# Altium footprint library LCD.PcbLib: 36 footprints (part 1 of 3)
Each footprint in its own frame and in the unit in brackets; x right, y up, seen from the top. Pads: shape width x height; smd on the part's side, far side on the other; paste and mask are expansions set on the pad; w line width, h text height; cw(c..) or ccw(c..) is an arc to the next point about the centre after c.
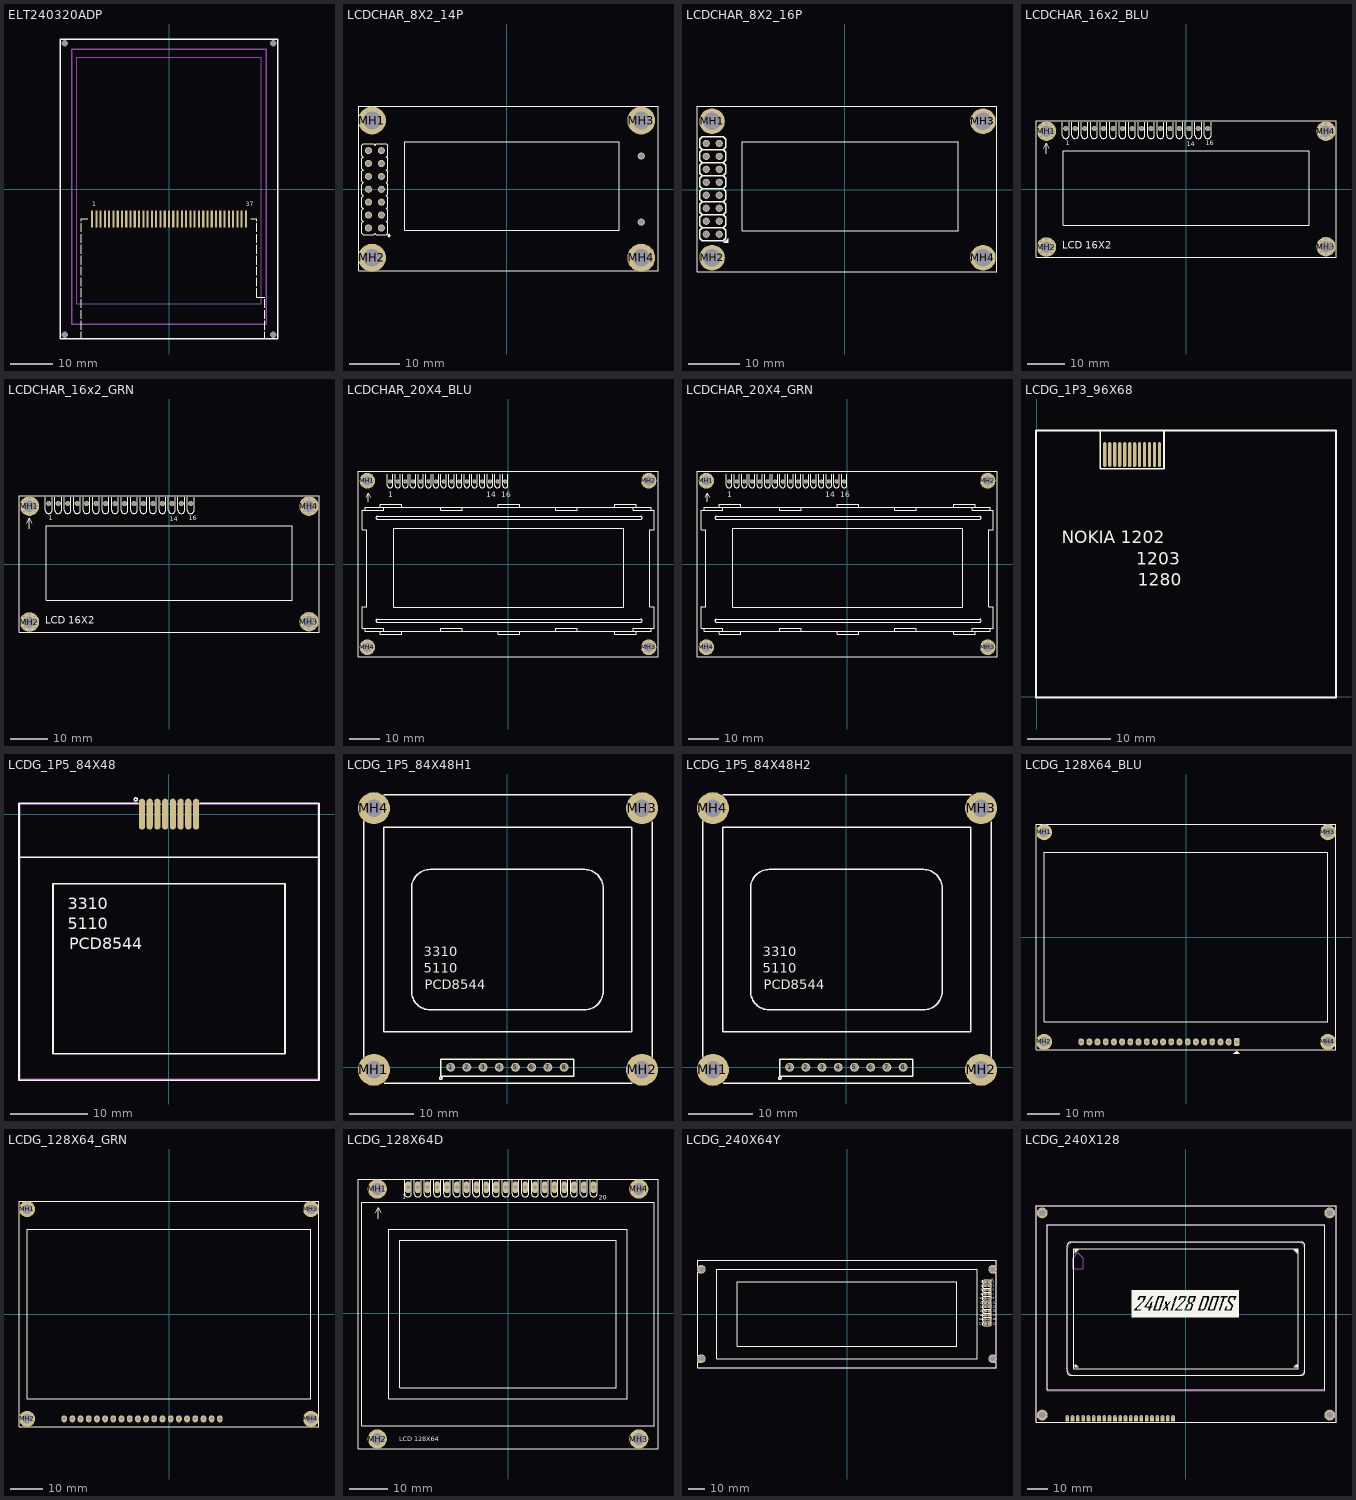
[diagram p0: the footprints below, top view; thin cyan lines are the x and y axes]

## ELT240320ADP [mm] "ELT240320ADP , 2.8 Inch TFT LED with Touch Screen , 37 Leads with 1mm Pitch"
pads (41):
  rect 0.5x4 smd: 1(-18,-7) 2(-17,-7) 3(-16,-7) 4(-15,-7) 5(-14,-7) 6(-13,-7) 7(-12,-7) 8(-11,-7) 9(-10,-7) 10(-9,-7) 11(-8,-7) 12(-7,-7) 13(-6,-7) 14(-5,-7) 15(-4,-7) 16(-3,-7) 17(-2,-7) 18(-1,-7) 19(0,-7) 20(1,-7) 21(2,-7) 22(3,-7) 23(4,-7) 24(5,-7) 25(6,-7) 26(7,-7) 27(8,-7) 28(9,-7) 29(10,-7) 30(11,-7) 31(12,-7) 32(13,-7) 33(14,-7) 34(15,-7) 35(16,-7) 36(17,-7) 37(18,-7)
  rect 0x0 hole 1.5: MH(-24.4,-34.125) MH(-24.4,34.125) MH(24.4,-34.125) MH(24.4,34.125)
Top Overlay:
  lines w0.254: -20.5,-34.792 -20.5,-33.416 ; -20.5,-32.908 -20.5,-30.876 ; -20.5,-30.368 -20.5,-28.336 ; -20.5,-27.828 -20.5,-25.796 ; -20.5,-25.288 -20.5,-23.256 ; -20.5,-22.748 -20.5,-20.716 ; -20.5,-20.208 -20.5,-18.176 ; -20.5,-17.668 -20.5,-15.636 ; -20.5,-15.128 -20.5,-13.096 ; -20.5,-12.588 -20.5,-10.556 ; -20.5,-10.048 -20.5,-8.016 ; -20.5,-7.508 -20.5,-6.992 -19.016,-6.992 ; 19.084,-6.992 20.5,-6.992 20.5,-7.508 ; 20.5,-25.292 22.4,-25.292 ; 20.5,-25.288 20.5,-23.256 ; 20.5,-22.748 20.5,-20.716 ; 20.5,-20.208 20.5,-18.176 ; 20.5,-17.668 20.5,-15.636 ; 20.5,-15.128 20.5,-13.096 ; 20.5,-12.588 20.5,-10.556 ; 20.5,-10.048 20.5,-8.016 ; 22.4,-35.1 22.4,-33.416 ; 22.4,-32.908 22.4,-30.876 ; 22.4,-30.368 22.4,-28.336 ; 22.4,-27.828 22.4,-25.796
  lines w0.3: -25.5,-35.1 -25.5,35.1 25.5,35.1 25.5,-35.1 -25.5,-35.1
  text "37" at 18,-4 h1
  text "1" at -18,-4 h1
Mechanical 1:
  lines w0.254: -21.6,-26.8 -21.6,30.8 21.6,30.8 21.6,-26.8 -21.6,-26.8
  lines w0.3: -22.75,-31.65 -22.75,32.65 22.75,32.65 22.75,-31.65 -22.75,-31.65
  text "Touch Area" at -5.55,-31.05 h1
  text "Active Area" at -21,29.2 h1
3D body: height 4.05, standoff 0.8, extent -25,-34.6 25,34.6

## LCDCHAR_8X2_14P [mm] "LCD Characters Display, 2linesX8char, header2x7 + 2"
pads (20):
  round 1.4 / inner round 1.4 / far side oval 2.2x1.4 hole 1 mask+0.1: 1(-24.65,-7.65) 2(-27.19,-7.65) 3(-24.65,-5.11) 4(-27.19,-5.11) 5(-24.65,-2.57) 6(-27.19,-2.57) 7(-24.65,-0.03) 8(-27.19,-0.03) 9(-24.65,2.51) 10(-27.19,2.51) 11(-24.65,5.05) 12(-27.19,5.05) 13(-24.65,7.59) 14(-27.19,7.59) 15(26.5,6.5) 16(26.5,-6.5)
  round 5.5 hole 3.5: MH1(-26.5,13.5) MH2(-26.5,-13.5) MH3(26.5,13.5) MH4(26.5,-13.5)
Top Overlay:
  circle w0.2: c-23.15,-9.13 r0.2
  lines w0.2: -28.19,-6.41 -28.49,-6.11 -28.49,-4.11 -28.19,-3.81 ; -28.19,-6.35 -28.49,-6.65 -28.49,-8.65 -28.19,-8.95 -26.19,-8.95 -25.89,-8.65 ; -28.19,-3.87 -28.49,-3.57 -28.49,-1.57 -28.19,-1.27 ; -28.19,-1.33 -28.49,-1.03 -28.49,0.97 -28.19,1.27 ; -28.19,1.21 -28.49,1.51 -28.49,3.51 -28.19,3.81 ; -28.19,3.75 -28.49,4.05 -28.49,6.05 -28.19,6.35 ; -28.19,6.29 -28.49,6.59 -28.49,8.59 -28.19,8.89 -26.19,8.89 -25.89,8.59 ; -25.95,-8.65 -25.65,-8.95 -23.65,-8.95 -23.35,-8.65 -23.35,-6.65 -23.65,-6.35 ; -25.95,8.59 -25.65,8.89 -23.65,8.89 -23.35,8.59 -23.35,6.59 -23.65,6.29 ; -23.65,-6.41 -23.35,-6.11 -23.35,-4.11 -23.65,-3.81 ; -23.65,-3.87 -23.35,-3.57 -23.35,-1.57 -23.65,-1.27 ; -23.65,-1.33 -23.35,-1.03 -23.35,0.97 -23.65,1.27 ; -23.65,1.21 -23.35,1.51 -23.35,3.51 -23.65,3.81 ; -23.65,3.75 -23.35,4.05 -23.35,6.05 -23.65,6.35 ; -29.1,-16.1 -29.1,16.3 29.8,16.3 29.8,-16.1 -29.1,-16.1 ; -20,-8.1 -20,9.3 22.2,9.3 22.2,-8.1 -20,-8.1
3D body "User Library-Header_Male_7Pin.STEP": height 8.54, standoff -3, extent -28.38,-8.92 -25.89,8.86
3D body "User Library-Header_Male_7Pin.STEP": height 8.54, standoff -3, extent -25.84,-8.92 -23.35,8.86
3D body "User Library-8x2 lcd.step": height 15.6, standoff 2.6, extent -29,-16 29,16

## LCDCHAR_8X2_16P [mm] "LCD Characters Display, 2linesX8char, header2x8"
pads (20):
  round 1.4 / inner round 1.4 / far side oval 2.2x1.4 hole 1: 1(-24.55,-8.75) 2(-27.09,-8.75) 3(-24.55,-6.21) 4(-27.09,-6.21) 5(-24.55,-3.67) 6(-27.09,-3.67) 7(-24.55,-1.13) 8(-27.09,-1.13) 9(-24.55,1.41) 10(-27.09,1.41) 11(-24.55,3.95) 12(-27.09,3.95) 13(-24.55,6.49) 14(-27.09,6.49) 15(-24.55,9.03) 16(-27.09,9.03)
  round 5 hole 3.5: MH1(-25.95,13.35) MH2(-25.95,-13.35) MH3(27.05,13.35) MH4(27.05,-13.35)
Top Overlay:
  region: -23.72,-10.46 -22.82,-10.46 -22.82,-9.56
  lines w0.2: -28.9,-16.1 -28.9,16.3 29.8,16.3 29.8,-16.1 -28.9,-16.1 ; -20,-8.1 -20,9.3 22.2,9.3 22.2,-8.1 -20,-8.1
  lines w0.254: -27.854,10.3 -23.79,10.3 -23.282,9.792 -23.282,8.267 -23.788,7.76 ; -27.852,-7.48 -28.362,-7.989 -28.362,-9.512 -27.854,-10.02 -23.788,-10.02 -23.282,-9.513 -23.282,-7.988 -23.79,-7.48 -27.854,-7.48 -28.362,-6.972 -28.362,-5.449 -27.852,-4.94 ; -27.852,-2.4 -28.362,-2.909 -28.362,-4.432 -27.854,-4.94 -23.79,-4.94 -23.282,-5.448 -23.282,-6.973 -23.788,-7.48 ; -27.852,0.14 -28.362,-0.369 -28.362,-1.892 -27.854,-2.4 -23.79,-2.4 -23.282,-2.908 -23.282,-4.433 -23.788,-4.94 ; -27.852,2.68 -28.362,2.171 -28.362,0.648 -27.854,0.14 -23.79,0.14 -23.282,-0.368 -23.282,-1.893 -23.788,-2.4 ; -27.852,5.22 -28.362,4.711 -28.362,3.188 -27.854,2.68 -23.79,2.68 -23.282,2.172 -23.282,0.647 -23.788,0.14 ; -27.852,7.76 -28.362,7.251 -28.362,5.728 -27.854,5.22 -23.79,5.22 -23.282,4.712 -23.282,3.187 -23.788,2.68 ; -27.852,10.3 -28.362,9.791 -28.362,8.268 -27.854,7.76 -23.79,7.76 -23.282,7.252 -23.282,5.727 -23.788,5.22
3D body "User Library-LCD0802.step": height 13.7, standoff 0.75, extent -28.8,-15.85 29.2,16.15
3D body "PIN.STEP": height 8.43, standoff -2.49, extent -25.82,7.76 -23.28,10.3
3D body "PIN.STEP": height 8.43, standoff -2.49, extent -28.36,7.76 -25.82,10.3
3D body "PIN.STEP": height 8.43, standoff -2.49, extent -28.36,-10.02 -25.82,-7.48
3D body "PIN_mid.STEP": height 8.43, standoff -2.49, extent -25.82,5.22 -23.28,7.76
3D body "PIN_mid.STEP": height 8.43, standoff -2.49, extent -25.82,2.68 -23.28,5.22
3D body "PIN_mid.STEP": height 8.43, standoff -2.49, extent -25.82,0.14 -23.28,2.68
3D body "PIN_mid.STEP": height 8.43, standoff -2.49, extent -25.82,-2.4 -23.28,0.14
3D body "PIN_mid.STEP": height 8.43, standoff -2.49, extent -25.82,-4.94 -23.28,-2.4
3D body "PIN_mid.STEP": height 8.43, standoff -2.49, extent -25.82,-7.48 -23.28,-4.94
3D body "PIN_mid.STEP": height 8.43, standoff -2.49, extent -28.36,-7.48 -25.82,-4.94
3D body "PIN_mid.STEP": height 8.43, standoff -2.49, extent -28.36,5.22 -25.82,7.76
3D body "PIN_mid.STEP": height 8.43, standoff -2.49, extent -28.36,2.68 -25.82,5.22
3D body "PIN_mid.STEP": height 8.43, standoff -2.49, extent -28.36,0.14 -25.82,2.68
3D body "PIN_mid.STEP": height 8.43, standoff -2.49, extent -28.36,-2.4 -25.82,0.14
3D body "PIN_mid.STEP": height 8.43, standoff -2.49, extent -28.36,-4.94 -25.82,-2.4
3D body "PIN.STEP": height 8.43, standoff -2.49, extent -25.82,-10.02 -23.28,-7.48

## LCDCHAR_16x2_BLU [mm] "LCD Characters Display, 2linesX16char, Blue, header1x16"
pads (20):
  round 1.4 / inner round 1.4 / far side oval 1.4x2.2 hole 1: 1(-32.3,16.25) 2(-29.76,16.25) 3(-27.22,16.25) 4(-24.68,16.25) 5(-22.14,16.25) 6(-19.6,16.25) 7(-17.06,16.25) 8(-14.52,16.25) 9(-11.98,16.25) 10(-9.44,16.25) 11(-6.9,16.25) 12(-4.36,16.25) 13(-1.82,16.25) 14(0.72,16.25) 15(3.26,16.25) 16(5.8,16.25)
  round 5.2 hole 3.1: MH1(-37.5,15.55) MH2(-37.5,-15.55) MH3(37.5,-15.45) MH4(37.5,15.55)
via 38.949,14.1 diameter 1 hole 0.5
via 37.5,13.5 diameter 1 hole 0.5
via 36.05,14.1 diameter 1 hole 0.5
via 35.45,15.55 diameter 1 hole 0.5
via 36.05,16.999 diameter 1 hole 0.5
via 37.5,17.6 diameter 1 hole 0.5
via 38.949,16.999 diameter 1 hole 0.5
via 39.55,15.55 diameter 1 hole 0.5
via 38.949,-16.9 diameter 1 hole 0.5
via 37.5,-17.5 diameter 1 hole 0.5
via 36.05,-16.9 diameter 1 hole 0.5
via 35.45,-15.45 diameter 1 hole 0.5
via 36.05,-14.001 diameter 1 hole 0.5
via 37.5,-13.4 diameter 1 hole 0.5
via 38.949,-14.001 diameter 1 hole 0.5
via 39.55,-15.45 diameter 1 hole 0.5
via -36.051,-17 diameter 1 hole 0.5
via -37.5,-17.6 diameter 1 hole 0.5
via -38.95,-17 diameter 1 hole 0.5
via -39.55,-15.55 diameter 1 hole 0.5
via -38.95,-14.101 diameter 1 hole 0.5
via -37.5,-13.5 diameter 1 hole 0.5
via -36.051,-14.101 diameter 1 hole 0.5
via -35.45,-15.55 diameter 1 hole 0.5
via -36.051,14.1 diameter 1 hole 0.5
via -37.5,13.5 diameter 1 hole 0.5
via -38.95,14.1 diameter 1 hole 0.5
via -39.55,15.55 diameter 1 hole 0.5
via -38.95,16.999 diameter 1 hole 0.5
via -37.5,17.6 diameter 1 hole 0.5
via -36.051,16.999 diameter 1 hole 0.5
via -35.45,15.55 diameter 1 hole 0.5
Top Overlay:
  lines w0.2: -38.154,11.016 -37.519,12.286 -36.884,11.016 ; -37.519,9.474 -37.519,12.159 ; -33.197,18.006 -33.197,14.45 ccw(c-32.308,14.45) -31.419,14.45 -31.419,18.006 ; -30.657,18.006 -30.657,14.45 ccw(c-29.768,14.45) -28.879,14.45 -28.879,18.006 ; -28.117,18.006 -28.117,14.45 ccw(c-27.228,14.45) -26.339,14.45 -26.339,18.006 ; -25.577,18.006 -25.577,14.45 ccw(c-24.688,14.45) -23.799,14.45 -23.799,18.006 ; -23.037,18.006 -23.037,14.45 ccw(c-22.148,14.45) -21.259,14.45 -21.259,18.006 ; -20.497,18.006 -20.497,14.45 ccw(c-19.608,14.45) -18.719,14.45 -18.719,18.006 ; -17.957,18.006 -17.957,14.45 ccw(c-17.068,14.45) -16.179,14.45 -16.179,18.006 ; -15.417,18.006 -15.417,14.45 ccw(c-14.528,14.45) -13.639,14.45 -13.639,18.006 ; -12.877,18.006 -12.877,14.45 ccw(c-11.988,14.45) -11.099,14.45 -11.099,18.006 ; -10.337,18.006 -10.337,14.45 ccw(c-9.448,14.45) -8.559,14.45 -8.559,18.006 ; -7.797,18.006 -7.797,14.45 ccw(c-6.908,14.45) -6.019,14.45 -6.019,18.006 ; -5.257,18.006 -5.257,14.45 ccw(c-4.368,14.45) -3.479,14.45 -3.479,18.006 ; -2.717,18.006 -2.717,14.45 ccw(c-1.828,14.45) -0.939,14.45 -0.939,18.006 ; -0.177,18.006 -0.177,14.45 ccw(c0.712,14.45) 1.601,14.45 1.601,18.006 ; 2.363,18.006 2.363,14.45 ccw(c3.252,14.45) 4.141,14.45 4.141,18.006 ; 4.903,18.006 4.903,14.45 ccw(c5.792,14.45) 6.681,14.45 6.681,18.006 ; -40.292,-18.218 -40.292,18.282 40.208,18.282 40.208,-18.218 -40.292,-18.218 ; -33,-9.65 -33,10.35 33,10.35 33,-9.65 -33,-9.65
  text "14" at 0.204,11.529 h1.27
  text "1" at -32.308,11.783 h1.27
  text "16" at 5.284,11.783 h1.27
  text "LCD 16X2" at -33.182,-15.946 h2
3D body "14801-15 H.STEP": height 18.71, standoff -3.71, extent -39.8,13.25 -35.2,17.85
3D body "14801-15 H.STEP": height 18.71, standoff -3.71, extent -39.8,-17.85 -35.2,-13.25
3D body "14801-15 H.STEP": height 18.71, standoff -3.71, extent 35.2,-17.75 39.8,-13.15
3D body "14801-15 H.STEP": height 18.71, standoff -3.71, extent 35.2,13.25 39.8,17.85
3D body "User Library-LCD-5.STEP": height 24.8, standoff 6.5, extent -40,-18 40,18
3D body "PBD-2.stp": height 8.5, standoff -3.15, extent 1.99,14.98 7.07,17.52
3D body "PBD-2.stp": height 8.5, standoff -3.15, extent -3.09,14.98 1.99,17.52
3D body "PBD-2.stp": height 8.5, standoff -3.15, extent -8.17,14.98 -3.09,17.52
3D body "PBD-2.stp": height 8.5, standoff -3.15, extent -13.25,14.98 -8.17,17.52
3D body "PBD-2.stp": height 8.5, standoff -3.15, extent -18.33,14.98 -13.25,17.52
3D body "PBD-2.stp": height 8.5, standoff -3.15, extent -23.41,14.98 -18.33,17.52
3D body "PBD-2.stp": height 8.5, standoff -3.15, extent -28.49,14.98 -23.41,17.52
3D body "PBD-2.stp": height 8.5, standoff -3.15, extent -33.57,14.98 -28.49,17.52

## LCDCHAR_16x2_GRN [mm] "LCD Characters Display, 2linesX16char, Green, header1x16"
pads (20):
  round 1.4 / inner round 1.4 / far side oval 1.4x2.2 hole 1: 1(-32.3,16.25) 2(-29.76,16.25) 3(-27.22,16.25) 4(-24.68,16.25) 5(-22.14,16.25) 6(-19.6,16.25) 7(-17.06,16.25) 8(-14.52,16.25) 9(-11.98,16.25) 10(-9.44,16.25) 11(-6.9,16.25) 12(-4.36,16.25) 13(-1.82,16.25) 14(0.72,16.25) 15(3.26,16.25) 16(5.8,16.25)
  round 5.2 hole 3.1: MH1(-37.5,15.55) MH2(-37.5,-15.55) MH3(37.5,-15.45) MH4(37.5,15.55)
via 38.949,14.1 diameter 1 hole 0.5
via 37.5,13.5 diameter 1 hole 0.5
via 36.05,14.1 diameter 1 hole 0.5
via 35.45,15.55 diameter 1 hole 0.5
via 36.05,16.999 diameter 1 hole 0.5
via 37.5,17.6 diameter 1 hole 0.5
via 38.949,16.999 diameter 1 hole 0.5
via 39.55,15.55 diameter 1 hole 0.5
via 38.949,-16.9 diameter 1 hole 0.5
via 37.5,-17.5 diameter 1 hole 0.5
via 36.05,-16.9 diameter 1 hole 0.5
via 35.45,-15.45 diameter 1 hole 0.5
via 36.05,-14.001 diameter 1 hole 0.5
via 37.5,-13.4 diameter 1 hole 0.5
via 38.949,-14.001 diameter 1 hole 0.5
via 39.55,-15.45 diameter 1 hole 0.5
via -36.051,-17 diameter 1 hole 0.5
via -37.5,-17.6 diameter 1 hole 0.5
via -38.95,-17 diameter 1 hole 0.5
via -39.55,-15.55 diameter 1 hole 0.5
via -38.95,-14.101 diameter 1 hole 0.5
via -37.5,-13.5 diameter 1 hole 0.5
via -36.051,-14.101 diameter 1 hole 0.5
via -35.45,-15.55 diameter 1 hole 0.5
via -36.051,14.1 diameter 1 hole 0.5
via -37.5,13.5 diameter 1 hole 0.5
via -38.95,14.1 diameter 1 hole 0.5
via -39.55,15.55 diameter 1 hole 0.5
via -38.95,16.999 diameter 1 hole 0.5
via -37.5,17.6 diameter 1 hole 0.5
via -36.051,16.999 diameter 1 hole 0.5
via -35.45,15.55 diameter 1 hole 0.5
Top Overlay:
  lines w0.2: -38.154,11.016 -37.519,12.286 -36.884,11.016 ; -37.519,9.474 -37.519,12.159 ; -33.197,18.006 -33.197,14.45 ccw(c-32.308,14.45) -31.419,14.45 -31.419,18.006 ; -30.657,18.006 -30.657,14.45 ccw(c-29.768,14.45) -28.879,14.45 -28.879,18.006 ; -28.117,18.006 -28.117,14.45 ccw(c-27.228,14.45) -26.339,14.45 -26.339,18.006 ; -25.577,18.006 -25.577,14.45 ccw(c-24.688,14.45) -23.799,14.45 -23.799,18.006 ; -23.037,18.006 -23.037,14.45 ccw(c-22.148,14.45) -21.259,14.45 -21.259,18.006 ; -20.497,18.006 -20.497,14.45 ccw(c-19.608,14.45) -18.719,14.45 -18.719,18.006 ; -17.957,18.006 -17.957,14.45 ccw(c-17.068,14.45) -16.179,14.45 -16.179,18.006 ; -15.417,18.006 -15.417,14.45 ccw(c-14.528,14.45) -13.639,14.45 -13.639,18.006 ; -12.877,18.006 -12.877,14.45 ccw(c-11.988,14.45) -11.099,14.45 -11.099,18.006 ; -10.337,18.006 -10.337,14.45 ccw(c-9.448,14.45) -8.559,14.45 -8.559,18.006 ; -7.797,18.006 -7.797,14.45 ccw(c-6.908,14.45) -6.019,14.45 -6.019,18.006 ; -5.257,18.006 -5.257,14.45 ccw(c-4.368,14.45) -3.479,14.45 -3.479,18.006 ; -2.717,18.006 -2.717,14.45 ccw(c-1.828,14.45) -0.939,14.45 -0.939,18.006 ; -0.177,18.006 -0.177,14.45 ccw(c0.712,14.45) 1.601,14.45 1.601,18.006 ; 2.363,18.006 2.363,14.45 ccw(c3.252,14.45) 4.141,14.45 4.141,18.006 ; 4.903,18.006 4.903,14.45 ccw(c5.792,14.45) 6.681,14.45 6.681,18.006 ; -40.292,-18.218 -40.292,18.282 40.208,18.282 40.208,-18.218 -40.292,-18.218 ; -33,-9.65 -33,10.35 33,10.35 33,-9.65 -33,-9.65
  text "14" at 0.204,11.529 h1.27
  text "1" at -32.308,11.783 h1.27
  text "16" at 5.284,11.783 h1.27
  text "LCD 16X2" at -33.182,-15.946 h2
3D body "14801-15 H.STEP": height 18.71, standoff -3.71, extent -39.8,13.25 -35.2,17.85
3D body "14801-15 H.STEP": height 18.71, standoff -3.71, extent -39.8,-17.85 -35.2,-13.25
3D body "14801-15 H.STEP": height 18.71, standoff -3.71, extent 35.2,-17.75 39.8,-13.15
3D body "14801-15 H.STEP": height 18.71, standoff -3.71, extent 35.2,13.25 39.8,17.85
3D body "PBD-2.stp": height 8.5, standoff -3.15, extent 1.99,14.98 7.07,17.52
3D body "PBD-2.stp": height 8.5, standoff -3.15, extent -3.09,14.98 1.99,17.52
3D body "PBD-2.stp": height 8.5, standoff -3.15, extent -8.17,14.98 -3.09,17.52
3D body "PBD-2.stp": height 8.5, standoff -3.15, extent -13.25,14.98 -8.17,17.52
3D body "PBD-2.stp": height 8.5, standoff -3.15, extent -18.33,14.98 -13.25,17.52
3D body "PBD-2.stp": height 8.5, standoff -3.15, extent -23.41,14.98 -18.33,17.52
3D body "PBD-2.stp": height 8.5, standoff -3.15, extent -28.49,14.98 -23.41,17.52
3D body "PBD-2.stp": height 8.5, standoff -3.15, extent -33.57,14.98 -28.49,17.52
3D body "LCD 16x2 JHD162A.step": height 25.6, standoff 12.45, extent -39.997,-18.01 40.003,17.99

## LCDCHAR_20X4_BLU [mm] "LCD Characters Display, 4linesX20char, Blue, header1x16"
pads (20):
  round 1.4 / inner round 1.4 / far side oval 1.4x2.2 hole 1: 1(-39,27.3) 2(-36.46,27.3) 3(-33.92,27.3) 4(-31.38,27.3) 5(-28.84,27.3) 6(-26.3,27.3) 7(-23.76,27.3) 8(-21.22,27.3) 9(-18.68,27.3) 10(-16.14,27.3) 11(-13.6,27.3) 12(-11.06,27.3) 13(-8.52,27.3) 14(-5.98,27.3) 15(-3.44,27.3) 16(-0.9,27.3)
  round 5.2 hole 3.1: MH1(-46.5,27.5) MH2(46.5,27.5) MH3(46.5,-27.5) MH4(-46.5,-27.5)
via -44.45,27.5 diameter 1 hole 0.5
via -45.051,28.949 diameter 1 hole 0.5
via -46.5,29.55 diameter 1 hole 0.5
via -47.95,28.949 diameter 1 hole 0.5
via -48.55,27.5 diameter 1 hole 0.5
via -47.95,26.05 diameter 1 hole 0.5
via -46.5,25.45 diameter 1 hole 0.5
via -45.051,26.05 diameter 1 hole 0.5
via 47.95,26.05 diameter 1 hole 0.5
via 46.5,25.45 diameter 1 hole 0.5
via 45.05,26.05 diameter 1 hole 0.5
via 44.45,27.5 diameter 1 hole 0.5
via 45.05,28.95 diameter 1 hole 0.5
via 46.5,29.55 diameter 1 hole 0.5
via 47.95,28.95 diameter 1 hole 0.5
via 48.55,27.5 diameter 1 hole 0.5
via 47.949,-28.95 diameter 1 hole 0.5
via 46.5,-29.55 diameter 1 hole 0.5
via 45.05,-28.95 diameter 1 hole 0.5
via 44.45,-27.5 diameter 1 hole 0.5
via 45.05,-26.051 diameter 1 hole 0.5
via 46.5,-25.45 diameter 1 hole 0.5
via 47.949,-26.051 diameter 1 hole 0.5
via 48.55,-27.5 diameter 1 hole 0.5
via -45.051,-28.95 diameter 1 hole 0.5
via -46.5,-29.55 diameter 1 hole 0.5
via -47.95,-28.95 diameter 1 hole 0.5
via -48.55,-27.5 diameter 1 hole 0.5
via -47.95,-26.051 diameter 1 hole 0.5
via -46.5,-25.45 diameter 1 hole 0.5
via -45.051,-26.051 diameter 1 hole 0.5
via -44.45,-27.5 diameter 1 hole 0.5
Top Overlay:
  lines w0.2: -46.874,22.13 -46.239,23.4 -45.604,22.13 ; -46.239,20.588 -46.239,23.273 ; -39.889,29.623 -39.889,26.067 ccw(c-39,26.067) -38.111,26.067 -38.111,29.623 ; -37.349,29.623 -37.349,26.067 ccw(c-36.46,26.067) -35.571,26.067 -35.571,29.623 ; -34.809,29.623 -34.809,26.067 ccw(c-33.92,26.067) -33.031,26.067 -33.031,29.623 ; -32.269,29.623 -32.269,26.067 ccw(c-31.38,26.067) -30.491,26.067 -30.491,29.623 ; -29.729,29.623 -29.729,26.067 ccw(c-28.84,26.067) -27.951,26.067 -27.951,29.623 ; -27.189,29.623 -27.189,26.067 ccw(c-26.3,26.067) -25.411,26.067 -25.411,29.623 ; -24.713,29.623 -24.713,26.067 ccw(c-23.824,26.067) -22.935,26.067 -22.935,29.623 ; -22.173,29.623 -22.173,26.067 ccw(c-21.284,26.067) -20.395,26.067 -20.395,29.623 ; -19.569,29.623 -19.569,26.067 ccw(c-18.68,26.067) -17.791,26.067 -17.791,29.623 ; -17.029,29.623 -17.029,26.067 ccw(c-16.14,26.067) -15.251,26.067 -15.251,29.623 ; -14.489,29.623 -14.489,26.067 ccw(c-13.6,26.067) -12.711,26.067 -12.711,29.623 ; -11.949,29.623 -11.949,26.067 ccw(c-11.06,26.067) -10.171,26.067 -10.171,29.623 ; -9.409,29.623 -9.409,26.067 ccw(c-8.52,26.067) -7.631,26.067 -7.631,29.623 ; -6.869,29.623 -6.869,26.067 ccw(c-5.98,26.067) -5.091,26.067 -5.091,29.623 ; -4.393,29.623 -4.393,26.067 ccw(c-3.504,26.067) -2.615,26.067 -2.615,29.623 ; -1.789,29.623 -1.789,26.067 ccw(c-0.9,26.067) -0.011,26.067 -0.011,29.623 ; -47.16,-21.21 -48.16,-21.21 -48.16,-14.21 -46.66,-14.21 -46.66,11.289 -48.16,11.289 -48.16,17.789 -47.16,17.789 ; -47.16,-21.21 -41.16,-21.21 -41.16,-22.211 ; -47.16,-21.21 -47.16,-22.211 -42.16,-22.211 ; -47.16,17.789 -41.16,17.789 -41.16,18.79 ; -47.16,17.789 -47.16,18.79 -42.16,18.79 ; -42.16,-22.211 -41.16,-22.211 ; -42.16,-22.211 -42.16,-23.212 -35.16,-23.212 -35.16,-22.211 ; -42.16,18.79 -41.16,18.79 ; -42.16,18.79 -42.16,19.788 -35.16,19.788 -35.16,18.79 ; -41.16,-22.211 -35.16,-22.211 ; -41.16,18.79 -35.16,18.79 ; -35.16,-22.211 -22.16,-22.211 ; -35.16,18.79 -22.16,18.79 ; -22.16,-22.211 -15.16,-22.211 ; -22.16,-22.211 -22.16,-21.21 -15.16,-21.21 -15.16,-22.211 ; -22.16,18.79 -15.16,18.79 ; -22.16,18.79 -22.16,17.789 -15.16,17.789 -15.16,18.79 ; -15.16,-22.211 -3.16,-22.211 ; -15.16,18.79 -3.16,18.79 ; -3.16,-22.211 3.84,-22.211 ; -3.16,-22.211 -3.16,-23.212 3.84,-23.212 3.84,-22.211 ; -3.16,18.79 3.84,18.79 ; -3.16,18.79 -3.16,19.788 3.84,19.788 3.84,18.79 ; 3.84,-22.211 15.84,-22.211 ; 3.84,18.79 15.84,18.79 ; 15.84,-22.211 22.84,-22.211 ; 15.84,-22.211 15.84,-21.21 22.84,-21.21 22.84,-22.211 ; 15.84,18.79 22.84,18.79 ; 15.84,18.79 15.84,17.789 22.84,17.789 22.84,18.79 ; 22.84,-22.211 35.34,-22.211 ; 22.84,18.79 35.34,18.79 ; 35.34,-22.211 41.34,-22.211 ; 35.34,-22.211 35.34,-23.212 42.34,-23.212 42.34,-22.211 ; 35.34,18.79 41.34,18.79 ; 35.34,18.79 35.34,19.788 42.34,19.788 42.34,18.79 ; 41.34,-22.211 42.34,-22.211 ; 41.34,-22.211 41.34,-21.21 47.34,-21.21 ; 41.34,18.79 42.34,18.79 ; 41.34,18.79 41.34,17.789 47.34,17.789 ; 42.34,-22.211 47.34,-22.211 47.34,-21.21 ; 42.34,18.79 47.34,18.79 47.34,17.789 ; 47.34,-21.21 48.34,-21.21 48.34,-14.21 46.84,-14.21 46.84,11.289 48.34,11.289 48.34,17.789 47.34,17.789 ; -43.16,-19.211 cw(c-43.16,-18.711) -43.16,-18.211 43.84,-18.21 cw(c43.84,-18.711) 43.84,-19.211 -43.16,-19.211 ; -43.16,14.79 cw(c-43.16,15.29) -43.16,15.79 43.84,15.79 cw(c43.84,15.29) 43.84,14.79 -43.16,14.789 ; -37.71,-14.301 38.3,-14.301 38.3,11.759 -37.71,11.759 -37.71,-14.301
  lines w0.254: -49.6,-30.6 49.6,-30.6 49.6,30.6 -49.6,30.6 -49.6,-30.6
  text "1" at -39.635,22.13 h1.78
  text "16" at -2.17,22.13 h1.78
  text "14" at -7.25,22.13 h1.78
3D body "PBD-2.stp": height 8.5, standoff -3.15, extent -40.27,26.03 -35.19,28.57
3D body "PBD-2.stp": height 8.5, standoff -3.15, extent -35.19,26.03 -30.11,28.57
3D body "PBD-2.stp": height 8.5, standoff -3.15, extent -30.11,26.03 -25.03,28.57
3D body "PBD-2.stp": height 8.5, standoff -3.15, extent -25.03,26.03 -19.95,28.57
3D body "PBD-2.stp": height 8.5, standoff -3.15, extent -19.95,26.03 -14.87,28.57
3D body "PBD-2.stp": height 8.5, standoff -3.15, extent -14.87,26.03 -9.79,28.57
3D body "PBD-2.stp": height 8.5, standoff -3.15, extent -9.79,26.03 -4.71,28.57
3D body "PBD-2.stp": height 8.5, standoff -3.15, extent -4.71,26.03 0.37,28.57
3D body "14801-15 H.STEP": height 18.71, standoff -3.71, extent -48.8,25.2 -44.2,29.8
3D body "14801-15 H.STEP": height 18.71, standoff -3.71, extent -48.8,-29.8 -44.2,-25.2
3D body "14801-15 H.STEP": height 18.71, standoff -3.71, extent 44.2,-29.8 48.8,-25.2
3D body "14801-15 H.STEP": height 18.71, standoff -3.71, extent 44.2,25.2 48.8,29.8
3D body "User Library-LCD 20 x 4.STEP": height 26.17, standoff 15.07, extent -49,-30 49,30

## LCDCHAR_20X4_GRN [mm] "LCD Characters Display, 4linesX20char, Green, header1x16"
pads (20):
  round 1.4 / inner round 1.4 / far side oval 1.4x2.2 hole 1: 1(-39,27.3) 2(-36.46,27.3) 3(-33.92,27.3) 4(-31.38,27.3) 5(-28.84,27.3) 6(-26.3,27.3) 7(-23.76,27.3) 8(-21.22,27.3) 9(-18.68,27.3) 10(-16.14,27.3) 11(-13.6,27.3) 12(-11.06,27.3) 13(-8.52,27.3) 14(-5.98,27.3) 15(-3.44,27.3) 16(-0.9,27.3)
  round 5.2 hole 3.1: MH1(-46.5,27.5) MH2(46.5,27.5) MH3(46.5,-27.5) MH4(-46.5,-27.5)
via -44.45,-27.5 diameter 1 hole 0.5
via -45.051,-26.051 diameter 1 hole 0.5
via -46.5,-25.45 diameter 1 hole 0.5
via -47.95,-26.051 diameter 1 hole 0.5
via -48.55,-27.5 diameter 1 hole 0.5
via -47.95,-28.95 diameter 1 hole 0.5
via -46.5,-29.55 diameter 1 hole 0.5
via -45.051,-28.95 diameter 1 hole 0.5
via 48.55,-27.5 diameter 1 hole 0.5
via 47.949,-26.051 diameter 1 hole 0.5
via 46.5,-25.45 diameter 1 hole 0.5
via 45.05,-26.051 diameter 1 hole 0.5
via 44.45,-27.5 diameter 1 hole 0.5
via 45.05,-28.95 diameter 1 hole 0.5
via 46.5,-29.55 diameter 1 hole 0.5
via 47.949,-28.95 diameter 1 hole 0.5
via 48.55,27.5 diameter 1 hole 0.5
via 47.95,28.95 diameter 1 hole 0.5
via 46.5,29.55 diameter 1 hole 0.5
via 45.05,28.95 diameter 1 hole 0.5
via 44.45,27.5 diameter 1 hole 0.5
via 45.05,26.05 diameter 1 hole 0.5
via 46.5,25.45 diameter 1 hole 0.5
via 47.95,26.05 diameter 1 hole 0.5
via -45.051,26.05 diameter 1 hole 0.5
via -46.5,25.45 diameter 1 hole 0.5
via -47.95,26.05 diameter 1 hole 0.5
via -48.55,27.5 diameter 1 hole 0.5
via -47.95,28.949 diameter 1 hole 0.5
via -46.5,29.55 diameter 1 hole 0.5
via -45.051,28.949 diameter 1 hole 0.5
via -44.45,27.5 diameter 1 hole 0.5
Top Overlay:
  lines w0.2: -46.874,22.13 -46.239,23.4 -45.604,22.13 ; -46.239,20.588 -46.239,23.273 ; -39.889,29.623 -39.889,26.067 ccw(c-39,26.067) -38.111,26.067 -38.111,29.623 ; -37.349,29.623 -37.349,26.067 ccw(c-36.46,26.067) -35.571,26.067 -35.571,29.623 ; -34.809,29.623 -34.809,26.067 ccw(c-33.92,26.067) -33.031,26.067 -33.031,29.623 ; -32.269,29.623 -32.269,26.067 ccw(c-31.38,26.067) -30.491,26.067 -30.491,29.623 ; -29.729,29.623 -29.729,26.067 ccw(c-28.84,26.067) -27.951,26.067 -27.951,29.623 ; -27.189,29.623 -27.189,26.067 ccw(c-26.3,26.067) -25.411,26.067 -25.411,29.623 ; -24.713,29.623 -24.713,26.067 ccw(c-23.824,26.067) -22.935,26.067 -22.935,29.623 ; -22.173,29.623 -22.173,26.067 ccw(c-21.284,26.067) -20.395,26.067 -20.395,29.623 ; -19.569,29.623 -19.569,26.067 ccw(c-18.68,26.067) -17.791,26.067 -17.791,29.623 ; -17.029,29.623 -17.029,26.067 ccw(c-16.14,26.067) -15.251,26.067 -15.251,29.623 ; -14.489,29.623 -14.489,26.067 ccw(c-13.6,26.067) -12.711,26.067 -12.711,29.623 ; -11.949,29.623 -11.949,26.067 ccw(c-11.06,26.067) -10.171,26.067 -10.171,29.623 ; -9.409,29.623 -9.409,26.067 ccw(c-8.52,26.067) -7.631,26.067 -7.631,29.623 ; -6.869,29.623 -6.869,26.067 ccw(c-5.98,26.067) -5.091,26.067 -5.091,29.623 ; -4.393,29.623 -4.393,26.067 ccw(c-3.504,26.067) -2.615,26.067 -2.615,29.623 ; -1.789,29.623 -1.789,26.067 ccw(c-0.9,26.067) -0.011,26.067 -0.011,29.623 ; -47.16,-21.21 -47.16,-22.211 -42.16,-22.211 ; -47.16,-21.21 -41.16,-21.21 -41.16,-22.211 ; -47.16,-21.21 -48.16,-21.21 -48.16,-14.21 -46.66,-14.21 -46.66,11.289 -48.16,11.289 -48.16,17.789 -47.16,17.789 ; -47.16,17.789 -47.16,18.79 -42.16,18.79 ; -47.16,17.789 -41.16,17.789 -41.16,18.79 ; -42.16,-22.211 -42.16,-23.212 -35.16,-23.212 -35.16,-22.211 ; -42.16,-22.211 -41.16,-22.211 ; -42.16,18.79 -42.16,19.788 -35.16,19.788 -35.16,18.79 ; -42.16,18.79 -41.16,18.79 ; -41.16,-22.211 -35.16,-22.211 ; -41.16,18.79 -35.16,18.79 ; -35.16,-22.211 -22.16,-22.211 ; -35.16,18.79 -22.16,18.79 ; -22.16,-22.211 -22.16,-21.21 -15.16,-21.21 -15.16,-22.211 ; -22.16,-22.211 -15.16,-22.211 ; -22.16,18.79 -22.16,17.789 -15.16,17.789 -15.16,18.79 ; -22.16,18.79 -15.16,18.79 ; -15.16,-22.211 -3.16,-22.211 ; -15.16,18.79 -3.16,18.79 ; -3.16,-22.211 -3.16,-23.212 3.84,-23.212 3.84,-22.211 ; -3.16,-22.211 3.84,-22.211 ; -3.16,18.79 -3.16,19.788 3.84,19.788 3.84,18.79 ; -3.16,18.79 3.84,18.79 ; 3.84,-22.211 15.84,-22.211 ; 3.84,18.79 15.84,18.79 ; 15.84,-22.211 15.84,-21.21 22.84,-21.21 22.84,-22.211 ; 15.84,-22.211 22.84,-22.211 ; 15.84,18.79 15.84,17.789 22.84,17.789 22.84,18.79 ; 15.84,18.79 22.84,18.79 ; 22.84,-22.211 35.34,-22.211 ; 22.84,18.79 35.34,18.79 ; 35.34,-22.211 35.34,-23.212 42.34,-23.212 42.34,-22.211 ; 35.34,-22.211 41.34,-22.211 ; 35.34,18.79 35.34,19.788 42.34,19.788 42.34,18.79 ; 35.34,18.79 41.34,18.79 ; 41.34,-22.211 41.34,-21.21 47.34,-21.21 ; 41.34,-22.211 42.34,-22.211 ; 41.34,18.79 41.34,17.789 47.34,17.789 ; 41.34,18.79 42.34,18.79 ; 42.34,-22.211 47.34,-22.211 47.34,-21.21 ; 42.34,18.79 47.34,18.79 47.34,17.789 ; 47.34,-21.21 48.34,-21.21 48.34,-14.21 46.84,-14.21 46.84,11.289 48.34,11.289 48.34,17.789 47.34,17.789 ; -43.16,-19.211 cw(c-43.16,-18.711) -43.16,-18.211 43.84,-18.21 cw(c43.84,-18.711) 43.84,-19.211 -43.16,-19.211 ; -43.16,14.79 cw(c-43.16,15.29) -43.16,15.79 43.84,15.79 cw(c43.84,15.29) 43.84,14.79 -43.16,14.789 ; -37.71,-14.301 -37.71,11.759 38.3,11.759 38.3,-14.301 -37.71,-14.301
  lines w0.254: -49.6,-30.6 -49.6,30.6 49.6,30.6 49.6,-30.6 -49.6,-30.6
  text "14" at -7.25,22.13 h1.78
  text "16" at -2.17,22.13 h1.78
  text "1" at -39.635,22.13 h1.78
3D body "14801-15 H.STEP": height 18.71, standoff -3.71, extent 44.2,25.2 48.8,29.8
3D body "14801-15 H.STEP": height 18.71, standoff -3.71, extent 44.2,-29.8 48.8,-25.2
3D body "14801-15 H.STEP": height 18.71, standoff -3.71, extent -48.8,-29.8 -44.2,-25.2
3D body "User Library-LCD 20 x 4.STEP": height 26.17, standoff 15.07, extent -49,-30 49,30
3D body "14801-15 H.STEP": height 18.71, standoff -3.71, extent -48.8,25.2 -44.2,29.8
3D body "PBD-2.stp": height 8.5, standoff -3.15, extent -4.71,26.03 0.37,28.57
3D body "PBD-2.stp": height 8.5, standoff -3.15, extent -9.79,26.03 -4.71,28.57
3D body "PBD-2.stp": height 8.5, standoff -3.15, extent -14.87,26.03 -9.79,28.57
3D body "PBD-2.stp": height 8.5, standoff -3.15, extent -19.95,26.03 -14.87,28.57
3D body "PBD-2.stp": height 8.5, standoff -3.15, extent -25.03,26.03 -19.95,28.57
3D body "PBD-2.stp": height 8.5, standoff -3.15, extent -30.11,26.03 -25.03,28.57
3D body "PBD-2.stp": height 8.5, standoff -3.15, extent -35.19,26.03 -30.11,28.57
3D body "PBD-2.stp": height 8.5, standoff -3.15, extent -40.27,26.03 -35.19,28.57
3D body: height 25.35, standoff 25.3, extent -37.846,-12.446 37.8,12.5

## LCDG_1P3_96X68 [mm] "LCD Nokia 1202, 1203, 1280"
height 3
pads (12):
  oval 0.4x3 smd mask+0.05: 1(8.2,29.2) 2(8.8,29.2) 3(9.4,29.2) 4(10,29.2) 5(10.6,29.2) 6(11.2,29.2) 7(11.8,29.2) 8(12.4,29.2) 9(13,29.2) 10(13.6,29.2) 11(14.2,29.2) 12(14.8,29.2)
Top Overlay:
  lines w0.2: 7.65,32.1 7.65,27.5 15.35,27.5 15.35,32.1 ; -0.1,-0.1 36.1,-0.1 36.1,32.1 -0.1,32.1 -0.1,-0.1
  text "1280" at 12.168,13.353 h1.5
  text "1203" at 12.015,15.903 h1.5
  text "NOKIA 1202" at 3.015,18.494 h1.5
3D body: height 1.1, standoff 1, extent 1,1 35,25.4
3D body: height 1, standoff 0.1, extent 0,0 36,32
3D body: height 1.1, standoff 1, extent 2,2 34,24.4
3D body: height 0.1, standoff 0, extent 8,27.65 8.4,30.95
3D body: height 0.1, standoff 0, extent 8.6,27.65 9,30.95
3D body: height 0.1, standoff 0, extent 9.2,27.65 9.6,30.95
3D body: height 0.1, standoff 0, extent 9.8,27.65 10.2,30.95
3D body: height 0.1, standoff 0, extent 10.4,27.65 10.8,30.95
3D body: height 0.1, standoff 0, extent 11,27.65 11.4,30.95
3D body: height 0.1, standoff 0, extent 11.6,27.65 12,30.95
3D body: height 0.1, standoff 0, extent 12.2,27.65 12.6,30.95
3D body: height 0.1, standoff 0, extent 12.8,27.65 13.2,30.95
3D body: height 0.1, standoff 0, extent 13.4,27.65 13.8,30.95
3D body: height 0.1, standoff 0, extent 14,27.65 14.4,30.95
3D body: height 0.1, standoff 0, extent 14.6,27.65 15,30.95

## LCDG_1P5_84X48 [mm] "LCD, NOKIA 3310, 5110, PCD8544"
height 2
pads (8):
  oval 0.8x4 smd: 1(-3.5,0) 2(-2.5,0) 3(-1.5,0) 4(-0.5,0) 5(0.5,0) 6(1.5,0) 7(2.5,0) 8(3.5,0)
Top Overlay:
  circle w0.2: c-4.3,1.9 r0.2
  lines w0.2: -19.4,-5.6 19.4,-5.6 ; -4,1.4 -19.4,1.4 -19.4,-34.4 19.4,-34.4 19.4,1.4 4,1.4 ; -15,-31 -15,-9 15,-9 15,-31 -15,-31
  text "PCD8544" at -12.932,-17.447 h1.5
  text "5110" at -13.085,-14.897 h1.5
  text "3310" at -13.085,-12.306 h1.5
Mechanical 13:
  lines w0.2: -19.3,-34.3 -19.3,1.3 19.3,1.3 19.3,-34.3 -19.3,-34.3
3D body: height 1.1, standoff 1, extent -19.3,-34.3 19.3,-5.6
3D body: height 1.1, standoff 1, extent -18.8,-33.8 18.8,-6.1
3D body: height 1, standoff 0.1, extent -19.3,-34.3 19.3,1.3
3D body: height 0.1, standoff 0, extent 0.1,-1.7 0.9,1.3
3D body: height 0.1, standoff 0, extent 1.1,-1.7 1.9,1.3
3D body: height 0.1, standoff 0, extent 3.1,-1.7 3.9,1.3
3D body: height 0.1, standoff 0, extent 2.1,-1.7 2.9,1.3
3D body: height 0.1, standoff 0, extent -2.9,-1.7 -2.1,1.3
3D body: height 0.1, standoff 0, extent -3.9,-1.7 -3.1,1.3
3D body: height 0.1, standoff 0, extent -1.9,-1.7 -1.1,1.3
3D body: height 0.1, standoff 0, extent -0.9,-1.7 -0.1,1.3

## LCDG_1P5_84X48H1 [mm] "LCD, NOKIA 3310, 5110, PCD8544"
height 2
pads (12):
  round 1.4 / inner round 1.4 / far side oval 1.4x2.2 hole 1 mask+0.1: 1(-8.89,0) 2(-6.35,0) 3(-3.81,0) 4(-1.27,0) 5(1.27,0) 6(3.81,0) 7(6.35,0) 8(8.89,0)
  round 5 / inner round 3 / far side round 5 hole 2.7 mask+0.1: MH1(-20.9,-0.4) MH2(21.1,-0.4) MH3(21.1,40.6) MH4(-20.9,40.6)
Top Overlay:
  circle w0.2: c-10.42,-1.7 r0.2
  lines w0.2: -22.5,1.6 -22.5,38.6 ; -19.4,42.7 19.6,42.7 ; -19.3,-2.5 19.6,-2.5 ; 22.7,1.6 22.7,38.5 ; -19.4,5.6 -19.4,37.6 19.5,37.6 19.5,5.6 -19.4,5.6 ; -15,11.9 ccw(c-12.1,11.9) -12.1,9 12.1,9 ccw(c12.1,11.9) 15,11.9 15,28.1 ccw(c12.1,28.1) 12.1,31 -12.1,31 ccw(c-12.1,28.1) -15,28.1 -15,11.9 ; -10.4,-1.4 -10.4,1.3 10.4,1.3 10.4,-1.4 -10.4,-1.4
  text "PCD8544" at -12.932,12.253 h1.5
  text "5110" at -13.085,14.803 h1.5
  text "3310" at -13.085,17.394 h1.5
3D body "female_header_a-bl254-eg-g02d.stp": height 8.5, standoff -3.2, extent 4.955,-1.3 10.285,1.2
3D body "female_header_a-bl254-eg-g03d.stp": height 8.5, standoff -3.2, extent -10.285,-1.3 -2.415,1.2
3D body "female_header_a-bl254-eg-g03d.stp": height 8.5, standoff -3.2, extent -2.665,-1.3 5.205,1.2
3D body "User Library-LCD5110.step": height 15.86, standoff 2.73, extent -22.4,-2.4 22.6,42.6

## LCDG_1P5_84X48H2 [mm] "LCD, NOKIA 3310, 5110, PCD8544"
height 2
pads (12):
  round 1.4 / inner round 1.4 / far side oval 1.4x2.2 hole 1 mask+0.1: 1(-8.89,0) 2(-6.35,0) 3(-3.81,0) 4(-1.27,0) 5(1.27,0) 6(3.81,0) 7(6.35,0) 8(8.89,0)
  round 5 / inner round 3 / far side round 5 hole 2.7 mask+0.1: MH1(-20.9,-0.4) MH2(21.1,-0.4) MH3(21.1,40.6) MH4(-20.9,40.6)
Top Overlay:
  circle w0.2: c-10.42,-1.7 r0.2
  lines w0.2: -22.5,1.6 -22.5,38.6 ; -19.4,42.7 19.6,42.7 ; -19.3,-2.5 19.6,-2.5 ; 22.7,1.6 22.7,38.5 ; -19.4,5.6 -19.4,37.6 19.5,37.6 19.5,5.6 -19.4,5.6 ; -15,11.9 ccw(c-12.1,11.9) -12.1,9 12.1,9 ccw(c12.1,11.9) 15,11.9 15,28.1 ccw(c12.1,28.1) 12.1,31 -12.1,31 ccw(c-12.1,28.1) -15,28.1 -15,11.9 ; -10.4,-1.4 -10.4,1.3 10.4,1.3 10.4,-1.4 -10.4,-1.4
  text "PCD8544" at -12.932,12.253 h1.5
  text "5110" at -13.085,14.803 h1.5
  text "3310" at -13.085,17.394 h1.5
3D body "female_header_a-bl254-eg-g02d.stp": height 8.5, standoff -3.2, extent 4.955,-1.3 10.285,1.2
3D body "female_header_a-bl254-eg-g03d.stp": height 8.5, standoff -3.2, extent -10.285,-1.3 -2.415,1.2
3D body "female_header_a-bl254-eg-g03d.stp": height 8.5, standoff -3.2, extent -2.665,-1.3 5.205,1.2
3D body "User Library-LCD5110G.step": height 16.59, standoff 10.69, extent -22.4,-2.4 22.6,42.6

## LCDG_128X64_BLU [mm] "LCD Graphic Disp, 128X64, TS12864A-2"
pads (24):
  rrect50% 1.8x2.4 hole 1: 1(15.76,-32.5)
  oval 1.8x2.2 hole 1: 2(13.22,-32.5) 3(10.68,-32.5) 4(8.14,-32.5) 5(5.6,-32.5) 6(3.06,-32.5) 7(0.52,-32.5) 8(-2.02,-32.5) 9(-4.56,-32.5) 10(-7.1,-32.5) 11(-9.64,-32.5) 12(-12.18,-32.5) 13(-14.72,-32.5) 14(-17.26,-32.5) 15(-19.8,-32.5) 16(-22.34,-32.5) 17(-24.88,-32.5) 18(-27.42,-32.5) 19(-29.96,-32.5) 20(-32.5,-32.5)
  round 5 hole 3: MH1(-44,32.5) MH2(-44,-32.5) MH3(44,32.5) MH4(44,-32.5)
Top Overlay:
  region: 15.7,-35.2 14.7,-36.2 16.7,-36.2
  lines w0.2: -46.5,-35 46.5,-35 46.5,35 -46.5,35 -46.5,-35 ; -44,-26.25 44,-26.25 44,26.25 -44,26.25 -44,-26.25
3D body "User Library-WG12864A-1.step": height 14.6, standoff 1, extent -46.5,-35 46.5,35

## LCDG_128X64_GRN [mm] "LCD Graphic Disp, 128X64, TS12864A-2"
pads (24):
  oval 1.8x2.2 hole 1: 1(15.76,-32.5) 2(13.22,-32.5) 3(10.68,-32.5) 4(8.14,-32.5) 5(5.6,-32.5) 6(3.06,-32.5) 7(0.52,-32.5) 8(-2.02,-32.5) 9(-4.56,-32.5) 10(-7.1,-32.5) 11(-9.64,-32.5) 12(-12.18,-32.5) 13(-14.72,-32.5) 14(-17.26,-32.5) 15(-19.8,-32.5) 16(-22.34,-32.5) 17(-24.88,-32.5) 18(-27.42,-32.5) 19(-29.96,-32.5) 20(-32.5,-32.5)
  round 5 hole 3: MH1(-44,32.5) MH2(-44,-32.5) MH3(44,32.5) MH4(44,-32.5)
Top Overlay:
  lines w0.2: -46.5,-35 46.5,-35 46.5,35 -46.5,35 -46.5,-35 ; -44,-26.25 44,-26.25 44,26.25 -44,26.25 -44,-26.25
3D body "User Library-GLCD128x64(KS0108).step": height 13.6, standoff 1, extent -46.5,-35 46.5,35

## LCDG_128X64D [mm] "LCD Graphic Disp, 128X64, 78X70mm"
pads (24):
  oct 1.508x3.016 hole 1: 1(-26,32.73) 2(-23.46,32.73) 3(-20.92,32.73) 4(-18.38,32.73) 5(-15.84,32.73) 6(-13.3,32.73) 7(-10.76,32.73) 8(-8.22,32.73) 9(-5.68,32.73) 10(-3.14,32.73) 11(-0.6,32.73) 12(1.94,32.73) 13(4.48,32.73) 14(7.02,32.73) 15(9.56,32.73) 16(12.1,32.73) 17(14.64,32.73) 18(17.18,32.73) 19(19.72,32.73) 20(22.26,32.73)
  round 5 hole 3 unplated: MH1(-34,32.27) MH2(-34,-32.73) MH3(34,-32.73) MH4(34,32.27)
Top Overlay:
  lines w0.2: -34.382,26.126 -33.747,27.396 -33.112,26.126 ; -33.747,24.584 -33.747,27.269 ; -26.889,34.635 -26.889,31.079 ccw(c-26,31.079) -25.111,31.079 -25.111,34.635 ; -24.349,34.635 -24.349,31.079 ccw(c-23.46,31.079) -22.571,31.079 -22.571,34.635 ; -21.809,34.635 -21.809,31.079 ccw(c-20.92,31.079) -20.031,31.079 -20.031,34.635 ; -19.269,34.635 -19.269,31.079 ccw(c-18.38,31.079) -17.491,31.079 -17.491,34.635 ; -16.729,34.635 -16.729,31.079 ccw(c-15.84,31.079) -14.951,31.079 -14.951,34.635 ; -14.189,34.635 -14.189,31.079 ccw(c-13.3,31.079) -12.411,31.079 -12.411,34.635 ; -11.649,34.635 -11.649,31.079 ccw(c-10.76,31.079) -9.871,31.079 -9.871,34.635 ; -9.109,34.635 -9.109,31.079 ccw(c-8.22,31.079) -7.331,31.079 -7.331,34.635 ; -6.569,34.635 -6.569,31.079 ccw(c-5.68,31.079) -4.791,31.079 -4.791,34.635 ; -4.029,34.635 -4.029,31.079 ccw(c-3.14,31.079) -2.251,31.079 -2.251,34.635 ; -1.489,34.635 -1.489,31.079 ccw(c-0.6,31.079) 0.289,31.079 0.289,34.635 ; 1.051,34.635 1.051,31.079 ccw(c1.94,31.079) 2.829,31.079 2.829,34.635 ; 3.591,34.635 3.591,31.079 ccw(c4.48,31.079) 5.369,31.079 5.369,34.635 ; 6.131,34.635 6.131,31.079 ccw(c7.02,31.079) 7.909,31.079 7.909,34.635 ; 8.671,34.635 8.671,31.079 ccw(c9.56,31.079) 10.449,31.079 10.449,34.635 ; 11.211,34.635 11.211,31.079 ccw(c12.1,31.079) 12.989,31.079 12.989,34.635 ; 13.751,34.635 13.751,31.079 ccw(c14.64,31.079) 15.529,31.079 15.529,34.635 ; 16.291,34.635 16.291,31.079 ccw(c17.18,31.079) 18.069,31.079 18.069,34.635 ; 18.831,34.635 18.831,31.079 ccw(c19.72,31.079) 20.609,31.079 20.609,34.635 ; 21.371,34.635 21.371,31.079 ccw(c22.26,31.079) 23.149,31.079 23.149,34.635 ; -39,-35.23 -39,34.77 39,34.77 39,-35.23 -39,-35.23 ; -38,-29.23 -38,28.77 38,28.77 38,-29.23 -38,-29.23 ; -31,-22.23 -31,21.77 31,21.77 31,-22.23 -31,-22.23 ; -28.13,-19.41 -28.13,18.94 28.14,18.94 28.14,-19.41 -28.13,-19.41
  text "20" at 23.53,29.428 h1.27
  text "1" at -27.524,29.682 h1.27
  text "LCD 128X64" at -28.286,-33.31 h1.27

## LCDG_240X64Y [mm] "LCD Graphic Disp, 240X64, YB24064-B"
height 12
pads (26):
  oval 2.2x1.4 / inner round 1.4 / far side round 1.4 hole 1: 1(85.9,19.5) 2(83.36,19.5) 3(85.9,16.96) 4(83.36,16.96) 5(85.9,14.42) 6(83.36,14.42) 7(85.9,11.88) 8(83.36,11.88) 9(85.9,9.34) 10(83.36,9.34) 11(85.9,6.8) 12(83.36,6.8) 13(85.9,4.26) 14(83.36,4.26) 15(85.9,1.72) 16(83.36,1.72) 17(85.9,-0.82) 18(83.36,-0.82) 19(85.9,-3.36) 20(83.36,-3.36) 21(85.9,-5.9) 22(83.36,-5.9)
  round 5.2 hole 3: MH1(-88,-27) MH2(-88,27) MH3(88,27) MH4(88,-27)
via -86.551,25.55 diameter 1 hole 0.5
via -88,24.95 diameter 1 hole 0.5
via -89.45,25.55 diameter 1 hole 0.5
via -90.05,27 diameter 1 hole 0.5
via -89.45,28.449 diameter 1 hole 0.5
via -88,29.05 diameter 1 hole 0.5
via -86.551,28.449 diameter 1 hole 0.5
via -85.95,27 diameter 1 hole 0.5
via 89.449,25.55 diameter 1 hole 0.5
via 88,24.95 diameter 1 hole 0.5
via 86.55,25.55 diameter 1 hole 0.5
via 85.95,27 diameter 1 hole 0.5
via 86.55,28.449 diameter 1 hole 0.5
via 88,29.05 diameter 1 hole 0.5
via 89.449,28.449 diameter 1 hole 0.5
via 90.05,27 diameter 1 hole 0.5
via 89.449,-28.45 diameter 1 hole 0.5
via 88,-29.05 diameter 1 hole 0.5
via 86.55,-28.45 diameter 1 hole 0.5
via 85.95,-27 diameter 1 hole 0.5
via 86.55,-25.551 diameter 1 hole 0.5
via 88,-24.95 diameter 1 hole 0.5
via 89.449,-25.551 diameter 1 hole 0.5
via 90.05,-27 diameter 1 hole 0.5
via -86.551,-28.45 diameter 1 hole 0.5
via -88,-29.05 diameter 1 hole 0.5
via -89.45,-28.45 diameter 1 hole 0.5
via -90.05,-27 diameter 1 hole 0.5
via -89.45,-25.551 diameter 1 hole 0.5
via -88,-24.95 diameter 1 hole 0.5
via -86.551,-25.551 diameter 1 hole 0.5
via -85.95,-27 diameter 1 hole 0.5
Top Overlay:
  circle w0.2: c87.5,20.87 r0.2
  lines w0.2: -88,-28.9 ccw(c-88,-27) -88,-25.1 -90.1,-25.1 -90.1,25.1 -88,25.1 ccw(c-88,27) -88,28.9 ; -87.9,-28.9 -90.1,-28.9 -90.1,-32.6 90.1,-32.6 90.1,-28.9 87.9,-28.9 ; -87.9,28.9 -90.1,28.9 -90.1,32.6 90.1,32.6 90.1,28.9 87.9,28.9 ; 88,-28.9 cw(c88,-27) 88,-25.1 90.1,-25.1 90.1,25.1 88,25.1 cw(c88,27) 88,28.9 ; -78.7,-27 -78.7,27 78.7,27 78.7,-27 -78.7,-27 ; -66.3,-19.5 66.3,-19.5 66.3,19.5 -66.3,19.5 -66.3,-19.5
  lines w0.254: 82.596,-7.17 86.66,-7.17 87.168,-6.662 87.168,-5.137 86.662,-4.63 ; 82.598,-7.17 82.088,-6.661 82.088,-5.138 82.596,-4.63 86.66,-4.63 87.168,-4.122 87.168,-2.597 86.662,-2.09 ; 82.598,-4.63 82.088,-4.121 82.088,-2.598 82.596,-2.09 86.66,-2.09 87.168,-1.582 87.168,-0.057 86.662,0.45 ; 82.598,-2.09 82.088,-1.581 82.088,-0.058 82.596,0.45 86.66,0.45 87.168,0.958 87.168,2.483 86.662,2.99 ; 82.598,0.45 82.088,0.959 82.088,2.482 82.596,2.99 86.66,2.99 87.168,3.498 87.168,5.023 86.662,5.53 ; 82.598,2.99 82.088,3.499 82.088,5.022 82.596,5.53 86.66,5.53 87.168,6.038 87.168,7.563 86.662,8.07 ; 82.598,5.53 82.088,6.039 82.088,7.562 82.596,8.07 86.66,8.07 87.168,8.578 87.168,10.103 86.662,10.61 ; 82.598,8.07 82.088,8.579 82.088,10.102 82.596,10.61 86.66,10.61 87.168,11.118 87.168,12.643 86.662,13.15 ; 82.598,10.61 82.088,11.119 82.088,12.642 82.596,13.15 86.66,13.15 87.168,13.658 87.168,15.183 86.662,15.69 ; 82.598,13.15 82.088,13.659 82.088,15.182 82.596,15.69 86.66,15.69 87.168,16.198 87.168,17.723 86.662,18.23 ; 82.598,15.69 82.088,16.199 82.088,17.722 82.596,18.23 86.66,18.23 87.168,18.738 87.168,20.263 86.662,20.77 82.596,20.77 82.088,20.262 82.088,18.739 82.598,18.23
  text "1" at 87.983,18.992 h1
  text "2" at 80.872,18.992 h1
  text "1" at 87.983,18.992 h1
  text "4" at 80.825,16.452 h1
  text "3" at 87.983,16.452 h1
  text "6" at 80.92,13.912 h1
  text "5" at 87.983,13.912 h1
  text "8" at 80.872,11.372 h1
  text "7" at 87.983,11.372 h1
  text "10" at 80.139,8.832 h1
  text "9" at 87.983,8.832 h1
  text "12" at 80.139,6.292 h1
  text "11" at 87.983,6.292 h1
  text "14" at 80.091,3.752 h1
  text "13" at 87.983,3.752 h1
  text "16" at 80.187,1.212 h1
  text "15" at 87.983,1.212 h1
  text "18" at 80.139,-1.328 h1
  text "17" at 87.983,-1.328 h1
  text "20" at 79.982,-3.868 h1
  text "19" at 87.983,-3.868 h1
  text "22" at 79.982,-6.408 h1
  text "21" at 87.983,-6.408 h1
Mechanical 13:
  lines w0.2: -90,-29 -88,-29 ccw(c-88,-27) -88,-25 -90,-25 ; -90,29 -88,29 cw(c-88,27) -88,25 -90,25 ; -88.5,-27 -87.5,-27 ; -88.5,27 -87.5,27 ; -88,-27.5 -88,-26.5 ; -88,26.5 -88,27.5 ; 87.5,-27 88.5,-27 ; 87.5,27 88.5,27 ; 88,-27.5 88,-26.5 ; 88,26.5 88,27.5 ; 90,-29 88,-29 cw(c88,-27) 88,-25 90,-25 ; 90,29 88,29 ccw(c88,27) 88,25 90,25 ; -90,-25 -90,-25 ; -90,25 -90,25 ; 90,-25 90,-25 ; 90,25 90,25 ; -90,-32.5 90,-32.5 90,32.5 -90,32.5 -90,-32.5
3D body "PIN.STEP": height -3.62, standoff -14.54, extent 84.63,-7.17 87.17,-4.63
3D body "PIN.STEP": height -3.62, standoff -14.54, extent 82.09,-7.17 84.63,-4.63
3D body "PIN.STEP": height -3.62, standoff -14.54, extent 82.09,18.23 84.63,20.77
3D body "PIN_mid.STEP": height -3.62, standoff -14.54, extent 84.63,-4.63 87.17,-2.09
3D body "PIN_mid.STEP": height -3.62, standoff -14.54, extent 84.63,-2.09 87.17,0.45
3D body "PIN_mid.STEP": height -3.62, standoff -14.54, extent 84.63,0.45 87.17,2.99
3D body "PIN_mid.STEP": height -3.62, standoff -14.54, extent 84.63,2.99 87.17,5.53
3D body "PIN_mid.STEP": height -3.62, standoff -14.54, extent 84.63,5.53 87.17,8.07
3D body "PIN_mid.STEP": height -3.62, standoff -14.54, extent 84.63,8.07 87.17,10.61
3D body "PIN_mid.STEP": height -3.62, standoff -14.54, extent 84.63,10.61 87.17,13.15
3D body "PIN_mid.STEP": height -3.62, standoff -14.54, extent 84.63,13.15 87.17,15.69
3D body "PIN_mid.STEP": height -3.62, standoff -14.54, extent 84.63,15.69 87.17,18.23
3D body "PIN_mid.STEP": height -3.62, standoff -14.54, extent 82.09,15.69 84.63,18.23
3D body "PIN_mid.STEP": height -3.62, standoff -14.54, extent 82.09,-4.63 84.63,-2.09
3D body "PIN_mid.STEP": height -3.62, standoff -14.54, extent 82.09,-2.09 84.63,0.45
3D body "PIN_mid.STEP": height -3.62, standoff -14.54, extent 82.09,0.45 84.63,2.99
3D body "PIN_mid.STEP": height -3.62, standoff -14.54, extent 82.09,2.99 84.63,5.53
3D body "PIN_mid.STEP": height -3.62, standoff -14.54, extent 82.09,5.53 84.63,8.07
3D body "PIN_mid.STEP": height -3.62, standoff -14.54, extent 82.09,8.07 84.63,10.61
3D body "PIN_mid.STEP": height -3.62, standoff -14.54, extent 82.09,10.61 84.63,13.15
3D body "PIN_mid.STEP": height -3.62, standoff -14.54, extent 82.09,13.15 84.63,15.69
3D body "PIN.STEP": height -3.62, standoff -14.54, extent 84.63,18.23 87.17,20.77
3D body "14801.STEP": height 13.69, standoff -3.71, extent -90.295,-29.282 -85.705,-24.7
3D body "14801.STEP": height 13.69, standoff -3.71, extent 85.705,-29.282 90.295,-24.7
3D body "14801.STEP": height 13.69, standoff -3.71, extent 85.705,24.718 90.295,29.3
3D body "14801.STEP": height 13.69, standoff -3.71, extent -90.295,24.718 -85.705,29.3
3D body: height 19.7, standoff 19.6, extent -66.3,-19.5 66.3,19.5
3D body: height 19.6, standoff 13.1, extent -78.7,-27 78.7,27
3D body: height 13.1, standoff 11.5, extent -90,-32.5 90,32.5
3D body "PBD-2.stp": height 8.5, standoff -3.15, extent 82.09,0.45 87.17,2.99
3D body "PBD-2.stp": height 8.5, standoff -3.15, extent 82.09,2.99 87.17,5.53
3D body "PBD-2.stp": height 8.5, standoff -3.15, extent 82.09,-2.09 87.17,0.45
3D body "PBD-2.stp": height 8.5, standoff -3.15, extent 82.09,8.07 87.17,10.61
3D body "PBD-2.stp": height 8.5, standoff -3.15, extent 82.09,10.61 87.17,13.15
3D body "PBD-2.stp": height 8.5, standoff -3.15, extent 82.09,5.53 87.17,8.07
3D body "PBD-2.stp": height 8.5, standoff -3.15, extent 82.09,15.69 87.17,18.23
3D body "PBD-2.stp": height 8.5, standoff -3.15, extent 82.09,18.23 87.17,20.77
3D body "PBD-2.stp": height 8.5, standoff -3.15, extent 82.09,13.15 87.17,15.69
3D body "PBD-2.stp": height 8.5, standoff -3.15, extent 82.09,-4.63 87.17,-2.09
3D body "PBD-2.stp": height 8.5, standoff -3.15, extent 82.09,-7.17 87.17,-4.63

## LCDG_240X128 [mm] "LCD Graphic Disp, 240X128, TS240128 With T6963 Controller, 144x104x12mm"
height 12
pads (46):
  round 1.8 hole 1 mask+0.1: 1(-57,-49.46) 2(-54.46,-49.46) 3(-51.92,-49.46) 4(-49.38,-49.46) 5(-46.84,-49.46) 6(-44.3,-49.46) 7(-41.76,-49.46) 8(-39.22,-49.46) 9(-36.68,-49.46) 10(-34.14,-49.46) 11(-31.6,-49.46) 12(-29.06,-49.46) 13(-26.52,-49.46) 14(-23.98,-49.46) 15(-21.44,-49.46) 16(-18.9,-49.46) 17(-16.36,-49.46) 18(-13.82,-49.46) 19(-11.28,-49.46) 20(-8.74,-49.46) 21(-6.2,-49.46)
  rect 1.8x2 all layers, no hole: 1(-57,-50.546) 2(-54.46,-50.546) 3(-51.92,-50.546) 4(-49.38,-50.546) 5(-46.84,-50.546) 6(-44.3,-50.546) 7(-41.76,-50.546) 8(-39.22,-50.546) 9(-36.68,-50.546) 10(-34.14,-50.546) 11(-31.6,-50.546) 12(-29.06,-50.546) 13(-26.52,-50.546) 14(-23.98,-50.546) 15(-21.44,-50.546) 16(-18.9,-50.546) 17(-16.36,-50.546) 18(-13.82,-50.546) 19(-11.28,-50.546) 20(-8.74,-50.546) 21(-6.2,-50.546)
  round 5.2 hole 3: MH1(-69,-48.5) MH2(-69,48.5) MH3(69,48.5) MH4(69,-48.5)
via -66.95,-48.5 diameter 1 hole 0.5
via -67.551,-47.051 diameter 1 hole 0.5
via -69,-46.45 diameter 1 hole 0.5
via -70.45,-47.051 diameter 1 hole 0.5
via -71.05,-48.5 diameter 1 hole 0.5
via -70.45,-49.95 diameter 1 hole 0.5
via -69,-50.55 diameter 1 hole 0.5
via -67.551,-49.95 diameter 1 hole 0.5
via 71.05,-48.5 diameter 1 hole 0.5
via 70.449,-47.051 diameter 1 hole 0.5
via 69,-46.45 diameter 1 hole 0.5
via 67.55,-47.051 diameter 1 hole 0.5
via 66.95,-48.5 diameter 1 hole 0.5
via 67.55,-49.95 diameter 1 hole 0.5
via 69,-50.55 diameter 1 hole 0.5
via 70.449,-49.95 diameter 1 hole 0.5
via 71.05,48.5 diameter 1 hole 0.5
via 70.449,49.949 diameter 1 hole 0.5
via 69,50.55 diameter 1 hole 0.5
via 67.55,49.949 diameter 1 hole 0.5
via 66.95,48.5 diameter 1 hole 0.5
via 67.55,47.05 diameter 1 hole 0.5
via 69,46.45 diameter 1 hole 0.5
via 70.449,47.05 diameter 1 hole 0.5
via -66.95,48.5 diameter 1 hole 0.5
via -67.551,49.949 diameter 1 hole 0.5
via -69,50.55 diameter 1 hole 0.5
via -70.45,49.949 diameter 1 hole 0.5
via -71.05,48.5 diameter 1 hole 0.5
via -70.45,47.05 diameter 1 hole 0.5
via -69,46.45 diameter 1 hole 0.5
via -67.551,47.05 diameter 1 hole 0.5
Top Overlay:
  drawing of 1265 lines, arcs and shapes, not listed
Mechanical 1:
  lines w0.3: 43,-29.5 53.586,-29.5 ccw(c53.586,-26.086) 57,-26.086 57,31.086 ccw(c53.586,31.086) 53.586,34.5 -53.586,34.5 ccw(c-53.586,31.086) -57,31.086 -57,-26.086 ccw(c-53.586,-26.086) -53.586,-29.5 50,-29.5 ; -51.92,29.28 -49.38,26.74 ; -51.92,29.28 -49.38,26.74 ; -51.92,29.28 -49.38,26.74 ; -51.92,29.28 -54.46,26.74 -54.46,21.66 -49.38,21.66 -49.38,26.74 ; -72,-52 72,-52 72,52 -72,52 -72,-52 ; -66.6,-36.9 66.6,-36.9 66.6,42.9 -66.6,42.9 -66.6,-36.9
  text "R" at -52.428,23.692 h2
3D body "14801.STEP": height 13.69, standoff -3.71, extent -71.295,46.218 -66.705,50.8
3D body "14801.STEP": height 13.69, standoff -3.71, extent 66.705,46.218 71.295,50.8
3D body "14801.STEP": height 13.69, standoff -3.71, extent 66.705,-50.782 71.295,-46.2
3D body "14801.STEP": height 13.69, standoff -3.71, extent -71.295,-50.782 -66.705,-46.2
3D body "User Library-TS240128D.step": height 21.38, standoff 9.05, extent -72,-52 72,52
3D body "Female Header 21.STEP": height 8.55, standoff -2.34, extent -58.2,-50.66 -5,-48.26
3D body "header21-10mm.STEP": height 13.74, standoff 2.82, extent -58.259,-50.73 -4.919,-48.19
3D body: height 20.5, standoff 20.45, extent -57,-29.5 57,34.925